# Altium footprint library PCB - POWER INDUCTORS - BEL FUSE F1C1-252012.PCBLIB: 1 footprints
Each footprint in its own frame and in the unit in brackets; x right, y up, seen from the top. Pads: shape width x height; smd on the part's side, far side on the other; paste and mask are expansions set on the pad; w line width, h text height; cw(c..) or ccw(c..) is an arc to the next point about the centre after c.
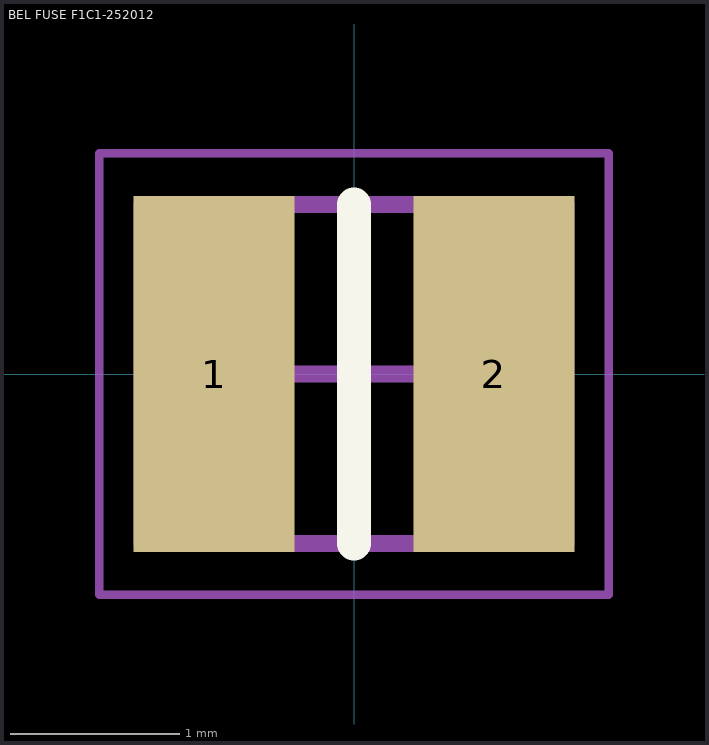
[diagram p0: the footprint, top view; thin cyan lines are the x and y axes]

## BEL FUSE F1C1-252012 [mm] "Inductor, 2-Leads, Body 2.50x2.00mm"
height 1.2
pads (2):
  rect 0.95x2.1 smd: 1(-0.825,0) 2(0.825,0)
Top Overlay:
  lines w0.2: 0,-1 0,1
Mechanical 13:
  lines w0.1: -1.25,-1 1.25,-1 1.25,1 -1.25,1 -1.25,-1
Mechanical 15:
  lines w0.05: -1.5,-1.3 1.5,-1.3 1.5,1.3 -1.5,1.3 -1.5,-1.3
  lines w0.1: -0.5,0 0.5,0 ; 0,-0.5 0,0.5
3D body "Bel Fuse F1C1-252012.step": height 1.2, standoff -0.01, extent -1.25,-1 1.25,1